# Altium footprint library MICs.PcbLib: 3 footprints
Each footprint in its own frame and in the unit in brackets; x right, y up, seen from the top. Pads: shape width x height; smd on the part's side, far side on the other; paste and mask are expansions set on the pad; w line width, h text height; cw(c..) or ccw(c..) is an arc to the next point about the centre after c.
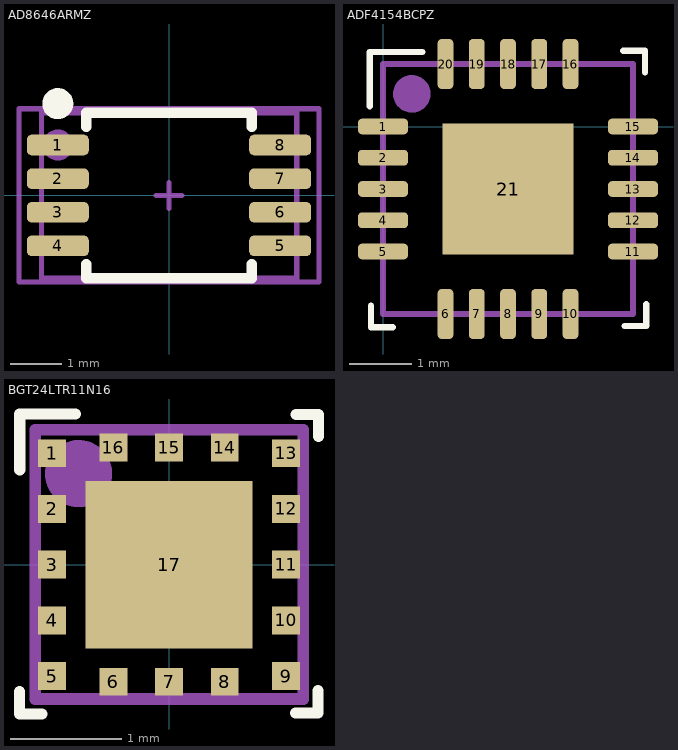
[diagram p0: the footprints below, top view; thin cyan lines are the x and y axes]

## AD8646ARMZ [mm] "8-Lead MSOP (RM-8)"
height 1.1
pads (8):
  rrect50% 1.2x0.4 smd: 1(-2.15,0.975) 2(-2.15,0.325) 3(-2.15,-0.325) 4(-2.15,-0.975) 5(2.15,-0.975) 6(2.15,-0.325) 7(2.15,0.325) 8(2.15,0.975)
Top Overlay:
  circle w0.3: c-2.15,1.775 r0.15
  lines w0.2: -1.6,-1.325 -1.6,-1.6 -1.5,-1.6 1.5,-1.6 1.6,-1.6 1.6,-1.325 ; -1.6,1.325 -1.6,1.6 -1.5,1.6 1.5,1.6 1.6,1.6 1.6,1.325
Mechanical 7:
  circle w0.3: c-2.15,0.975 r0.15
  lines w0.1: -2.9,-1.675 -2.9,1.675 2.9,1.675 2.9,-1.675 -2.9,-1.675
  text ".Designator" at -0.5,1.025 h0.7
Mechanical 13:
  lines w0.1: -2.468,-1.6 -2.468,1.6 2.471,1.6 2.471,-1.6 -2.468,-1.6
Mechanical 15:
  circle w0.3: c-2.15,0.975 r0.15
  lines w0.1: -0.25,0 0.25,0 ; 0,-0.25 0,0.25 ; -2.9,-1.675 2.9,-1.675 2.9,0.675 2.9,1.675 -2.9,1.675 -2.9,-1.675
3D body "SW3dPS-MSOP8.STEP": height 1.08, standoff -0.02, extent -2.469,-1.55 2.469,1.55

## ADF4154BCPZ [mm] "20-LFCSP_WQ [CP-20-6]"
height 0.8
pads (21):
  rrect50% 0.8x0.25 smd paste-0.025 mask+0.05: 1(0,0) 2(0,-0.5) 3(0,-1) 4(0,-1.5) 5(0,-2) 11(4,-2) 12(4,-1.5) 13(4,-1) 14(4,-0.5) 15(4,0)
  rrect50% 0.25x0.8 smd paste-0.025 mask+0.05: 6(1,-3) 7(1.5,-3) 8(2,-3) 9(2.5,-3) 10(3,-3) 16(3,1) 17(2.5,1) 18(2,1) 19(1.5,1) 20(1,1)
  rect 2.1x2.1 smd paste-0.025 mask+0.05: 21(2,-1)
Top Overlay:
  lines w0.1: -0.213,0.326 -0.213,1.192 0.629,1.192 ; -0.192,-2.864 -0.192,-3.213 0.157,-3.213 ; 3.843,1.213 4.192,1.213 4.192,0.864 ; 3.864,-3.192 4.213,-3.192 4.213,-2.843
Mechanical 7:
  circle w0.3: c0.461,0.522 r0.15
  lines w0.1: 0,-3 0,1 4,1 4,-3 0,-3
  text ".Designator" at 1.313,-1.265 h0.7
Mechanical 13:
  lines w0.1: 0,-3 4,-3 4,1 0,1 0,-3
Mechanical 15:
  circle w0.3: c0.461,0.522 r0.15
  lines w0.1: 1.744,-1.006 2.244,-1.006 ; 1.994,-1.256 1.994,-0.756 ; 0,-3 4,-3 4,1 0,1 0,-3
3D body "User Library-LFCSP-20.STEP": height 1, standoff 0, extent 0,-3 4,1

## BGT24LTR11N16 [mm] "TSNP-16-9"
height 0.73
pads (17):
  rect 0.25x0.25 smd paste-0.25 mask+0: 1(-1.05,1) 2(-1.05,0.5) 3(-1.05,0) 4(-1.05,-0.5) 5(-1.05,-1) 6(-0.5,-1.05) 7(0,-1.05) 8(0.5,-1.05) 9(1.05,-1) 10(1.05,-0.5) 11(1.05,0) 12(1.05,0.5) 13(1.05,1) 14(0.5,1.05) 15(0,1.05) 16(-0.5,1.05)
  rect 1.5x1.5 smd paste-1.5 mask+0: 17(0,0)
Top Overlay:
  lines w0.1: -1.341,-1.14 -1.341,-1.34 -1.141,-1.34 ; -1.34,0.852 -1.34,1.352 -0.84,1.352 ; 1.137,-1.331 1.337,-1.331 1.337,-1.131 ; 1.14,1.348 1.34,1.348 1.34,1.148
Mechanical 7:
  circle w0.3: c-0.813,0.816 r0.15
  lines w0.1: -1.203,-1.209 -1.203,1.213 1.205,1.213 1.205,-1.209 -1.203,-1.209
  text ".Designator" at -0.438,-0.201 h0.7
Mechanical 13:
  circle w0.1: c-0.858,0.875 r0.15
  lines w0.1: -1.201,1.21 1.2,1.21 ; -1.2,1.2 -1.2,-1.201 1.202,-1.201 ; 1.2,-1.2 1.2,1.202
Mechanical 15:
  circle w0.3: c-0.811,0.818 r0.15
  lines w0.1: -0.25,0 0.25,0 ; 0,-0.25 0,0.25 ; -1.203,-1.201 -1.203,1.212 1.2,1.212 1.2,-1.201 -1.203,-1.201
3D body "PG-TSNP-16-9_C66065-A0004-C376-01-0004.stp": height 0.77, standoff 0, extent -1.201,-1.19 1.199,1.21